# EAGLE library part ETD49 (library ETD)
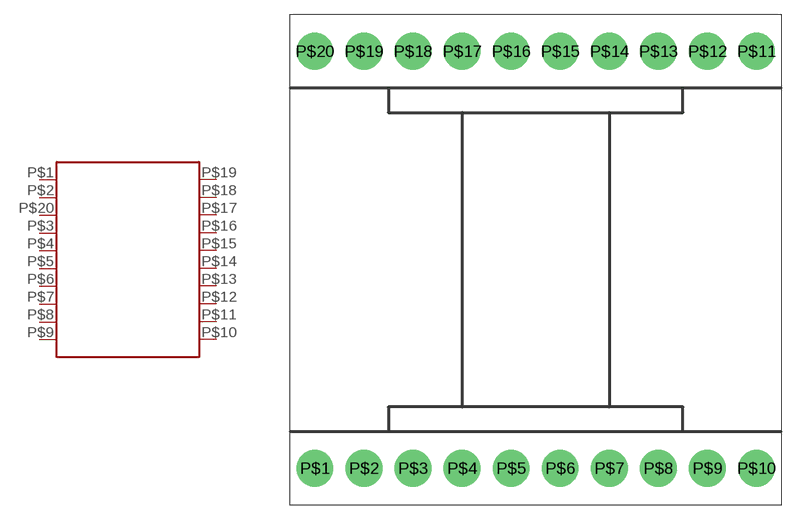
[diagram p0: symbol with the pads of ETD49; footprint ETD49]

Designator prefix -

## ETD49  [ETD49]
P$1  1
P$2  2
P$3  4
P$4  5
P$5  6
P$6  7
P$7  8
P$8  9
P$9  10
P$10  11
P$11  12
P$12  13
P$13  14
P$14  15
P$15  16
P$16  17
P$17  18
P$18  19
P$19  20
P$20  P$3

## Footprint ETD49 (pad centres in mm)
drill 1.5 pad 3.81: P$1 -22.86,-21.59; P$2 -17.78,-21.59; P$3 -12.7,-21.59; P$4 -7.62,-21.59; P$5 -2.54,-21.59; P$6 2.54,-21.59; P$7 7.62,-21.59; P$8 12.7,-21.59; P$9 17.78,-21.59; P$10 22.86,-21.59; P$11 22.86,21.59; P$12 17.78,21.59; P$13 12.7,21.59; P$14 7.62,21.59; P$15 2.54,21.59; P$16 -2.54,21.59; P$17 -7.62,21.59; P$18 -12.7,21.59; P$19 -17.78,21.59; P$20 -22.86,21.59